# Altium schematic symbol library ILI9341.SchLib: 1 symbol
Pins are listed as number, name and electrical type; pins without a type are passive.

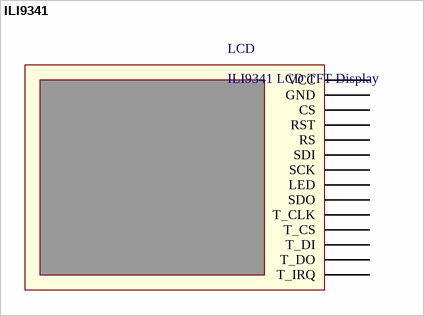
[diagram p0: symbol ILI9341]

## ILI9341
designator LCD, comment ILI9341 LCD TFT Display
footprint ILI9341
pins: 0 VCC, 1 GND, 2 CS, 3 RST, 4 RS, 5 SDI, 6 SCK, 7 LED, 8 SDO, 9 T_CLK, 10 T_CS, 11 T_DI, 12 T_DO, 13 T_IRQ